# Altium footprint library POWERWFQFN-38(4.0X6.0).PcbLib: 1 footprints
Each footprint in its own frame and in the unit in brackets; x right, y up, seen from the top. Pads: shape width x height; smd on the part's side, far side on the other; paste and mask are expansions set on the pad; w line width, h text height; cw(c..) or ccw(c..) is an arc to the next point about the centre after c.
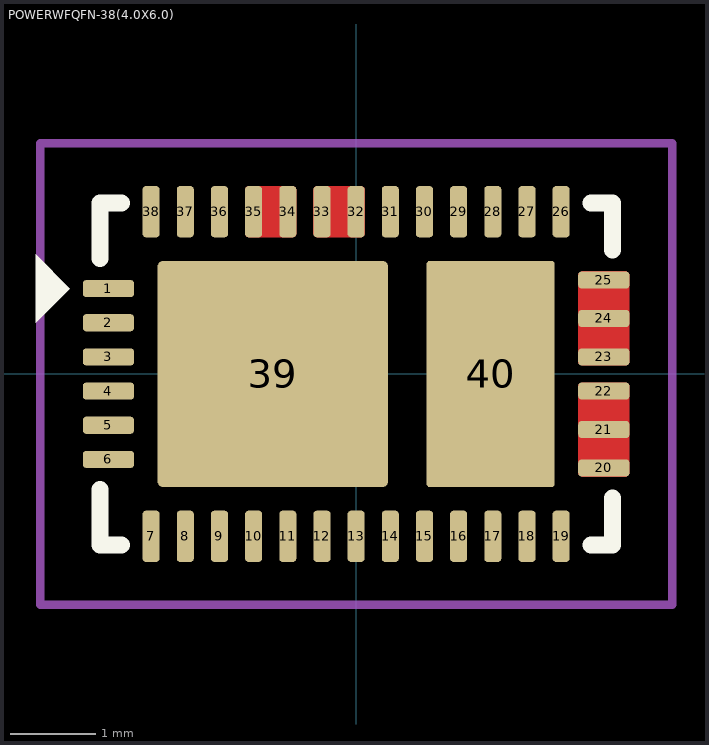
[diagram p0: the footprint, top view; thin cyan lines are the x and y axes]

## POWERWFQFN-38(4.0X6.0) [mm]
pads (40):
  rrect40% 0.6x0.2 smd: 1(-2.9,1) 2(-2.9,0.6) 3(-2.9,0.2) 4(-2.9,-0.2) 5(-2.9,-0.6) 6(-2.9,-1)
  rrect40% 0.2x0.6 smd: 7(-2.4,-1.9) 8(-2,-1.9) 9(-1.6,-1.9) 10(-1.2,-1.9) 11(-0.8,-1.9) 12(-0.4,-1.9) 13(0,-1.9) 14(0.4,-1.9) 15(0.8,-1.9) 16(1.2,-1.9) 17(1.6,-1.9) 18(2,-1.9) 19(2.4,-1.9) 26(2.4,1.9) 27(2,1.9) 28(1.6,1.9) 29(1.2,1.9) 30(0.8,1.9) 31(0.4,1.9) 36(-1.6,1.9) 37(-2,1.9) 38(-2.4,1.9)
  rrect40% 0.6x0.2 smd paste-0.1 mask+0: 20(2.9,-1.1) 21(2.9,-0.65) 22(2.9,-0.2) 23(2.9,0.2) 24(2.9,0.65) 25(2.9,1.1)
  rrect40% 0.2x0.6 smd paste-0.1 mask+0: 32(0,1.9) 33(-0.4,1.9) 34(-0.8,1.9) 35(-1.2,1.9)
  rrect5% 2.7x2.65 smd paste-1.325: 39(-0.975,0)
  rrect5% 1.5x2.65 smd paste-0.75: 40(1.575,0)
Top Layer:
  region: -0.5,2.15 -0.5,2.16 -0.492,2.178 -0.478,2.192 -0.46,2.2 -0.45,2.2 0.05,2.2 0.06,2.2 0.078,2.192 0.092,2.178 0.1,2.16 0.1,2.15 0.1,1.65 0.1,1.64 0.092,1.622 0.078,1.608 0.06,1.6 0.05,1.6 -0.45,1.6 -0.46,1.6 -0.478,1.608 -0.492,1.622 -0.5,1.64 -0.5,1.65
  region: -1.3,2.15 -1.3,2.16 -1.292,2.178 -1.278,2.192 -1.26,2.2 -1.25,2.2 -0.75,2.2 -0.74,2.2 -0.722,2.192 -0.708,2.178 -0.7,2.16 -0.7,2.15 -0.7,1.65 -0.7,1.64 -0.708,1.622 -0.722,1.608 -0.74,1.6 -0.75,1.6 -1.25,1.6 -1.26,1.6 -1.278,1.608 -1.292,1.622 -1.3,1.64 -1.3,1.65
  region: 3.15,1.2 3.16,1.2 3.178,1.192 3.192,1.178 3.2,1.16 3.2,1.15 3.2,0.15 3.2,0.14 3.192,0.122 3.178,0.108 3.16,0.1 3.15,0.1 2.65,0.1 2.64,0.1 2.622,0.108 2.608,0.122 2.6,0.14 2.6,0.15 2.6,1.15 2.6,1.16 2.608,1.178 2.622,1.192 2.64,1.2 2.65,1.2
  region: 2.65,-1.2 2.64,-1.2 2.622,-1.192 2.608,-1.178 2.6,-1.16 2.6,-1.15 2.6,-0.15 2.6,-0.14 2.608,-0.122 2.622,-0.108 2.64,-0.1 2.65,-0.1 3.15,-0.1 3.16,-0.1 3.178,-0.108 3.192,-0.122 3.2,-0.14 3.2,-0.15 3.2,-1.15 3.2,-1.16 3.192,-1.178 3.178,-1.192 3.16,-1.2 3.15,-1.2
Top Overlay:
  region: -3.75,0.6 -3.75,1.4 -3.35,1
  lines w0.2: -3,-1.35 -3,-2 -2.75,-2 ; -3,1.35 -3,2 -2.75,2 ; 2.75,-2 3,-2 3,-1.45 ; 2.75,2 3,2 3,1.45
Top Paste:
  drawing of 12 lines, arcs and shapes, not listed
Top Solder:
  drawing of 6 lines, arcs and shapes, not listed
Top Courtyard:
  lines w0.1: -3.7,-2.7 3.7,-2.7 3.7,2.7 -3.7,2.7 -3.7,-2.7
3D body "step_temp.STEP": height 0.8, standoff 0, extent -3,-2 3,2